# Altium footprint library projectPCB_v1.PcbLib: 16 footprints
Each footprint in its own frame and in the unit in brackets; x right, y up, seen from the top. Pads: shape width x height; smd on the part's side, far side on the other; paste and mask are expansions set on the pad; w line width, h text height; cw(c..) or ccw(c..) is an arc to the next point about the centre after c.
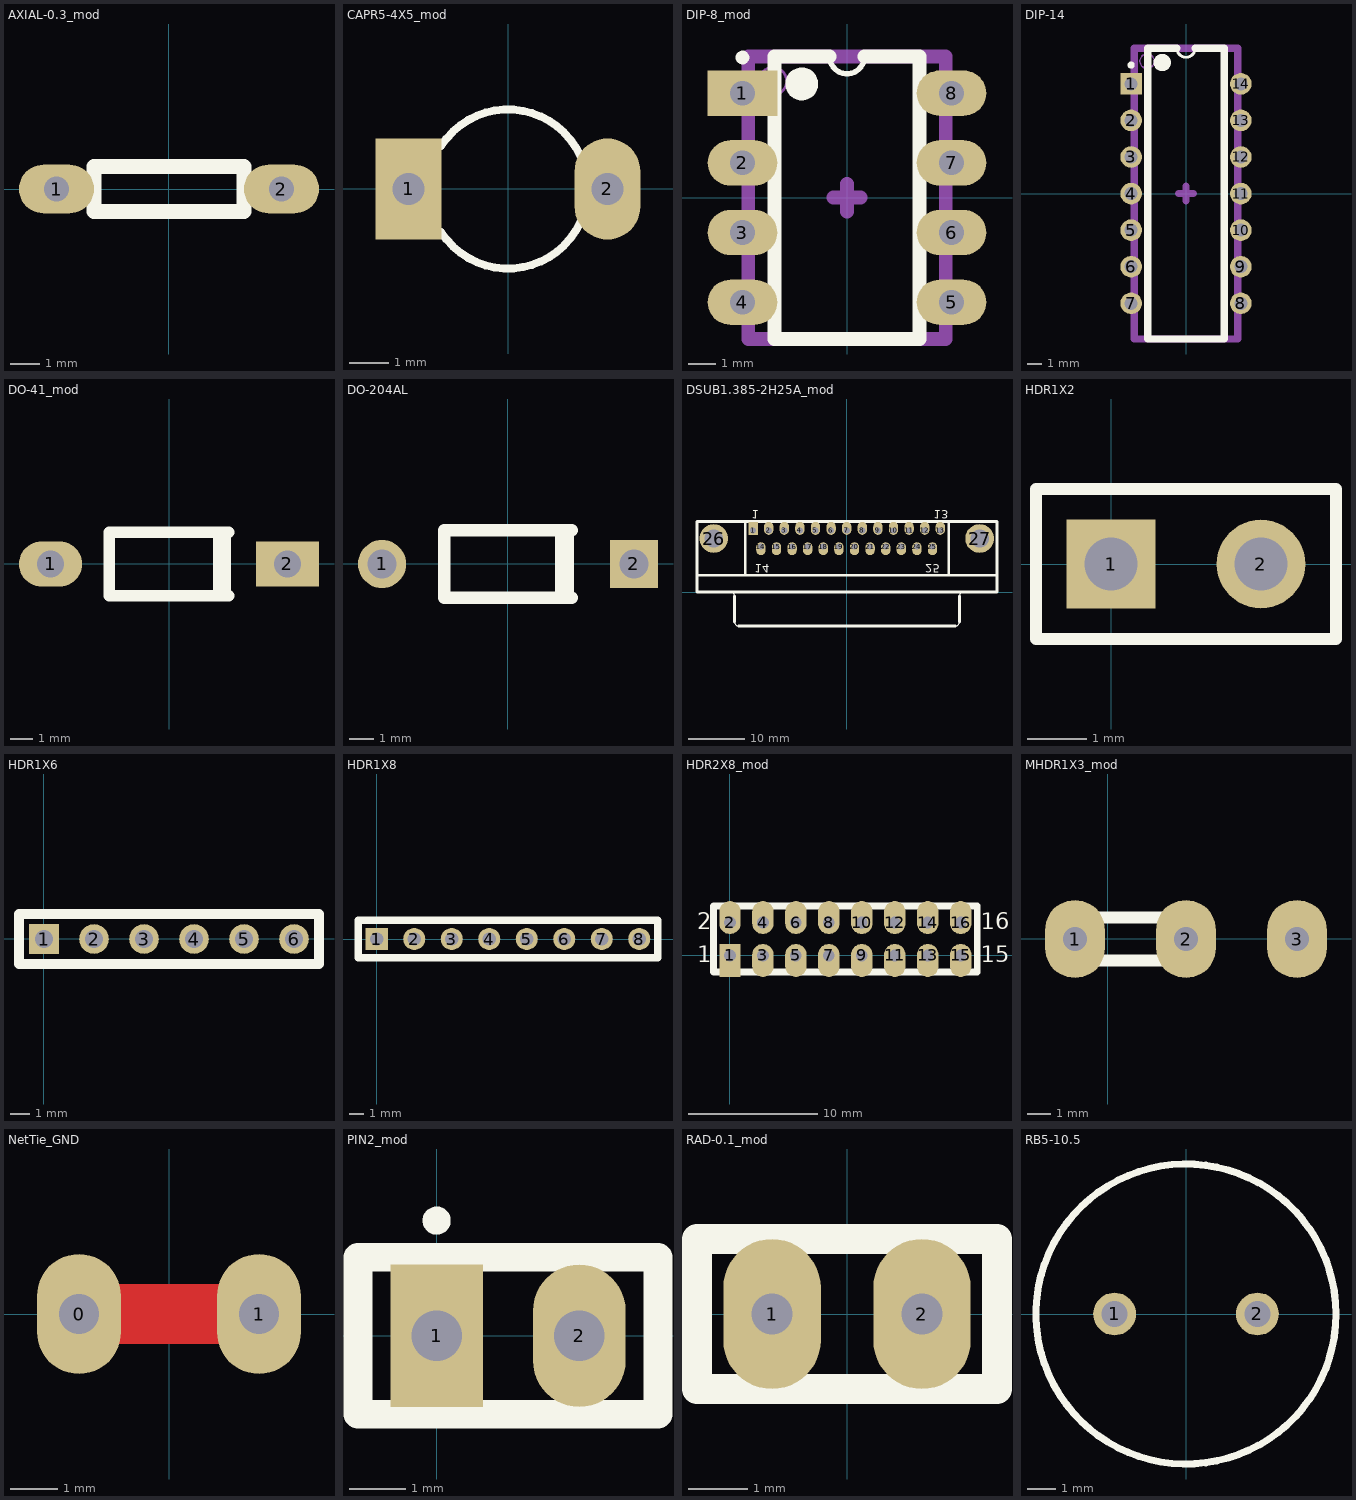
[diagram p0: the footprints below, top view; thin cyan lines are the x and y axes]

## AXIAL-0.3_mod [mil]
pads (2):
  oval 100x65 hole 33.46: 1(-150,0) 2(150,0)
Top Overlay:
  lines w20: -109,0 -100,0 ; 109,0 100,0 ; 100,0 100,30 -100,30 -100,-30 100,-30 100,0

## CAPR5-4X5_mod [mil]
pads (2):
  rect 65x100 hole 31.5: 1(-98.43,0)
  oval 65x100 hole 31.5: 2(98.42,0)
Top Overlay:
  lines w7.87: -66.4,-42.32 ccw(c0,0) 71.61,-32.74 ; -66.4,42.32 cw(c0,0) 71.61,32.74

## DIP-8_mod [mil]
pads (8):
  rect 100x65 hole 35.43: 1(-150,150)
  oval 100x65 hole 35.43: 2(-150,50) 3(-150,-50) 4(-150,-150) 5(150,-150) 6(150,-50) 7(150,50) 8(150,150)
Top Overlay:
  circle w23.62: c-64.96,163.39 r11.81
  circle w9.84: c-150,201.18 r4.92
  lines w7.87: -25,202.76 ccw(c0,202.76) 25,202.76
  lines w20: -25,202.76 -104.33,202.76 -104.33,-202.76 104.33,-202.76 104.33,202.76 25,202.76
Mechanical 13:
  circle w3.94: c-106.3,167.32 r19.68
  lines w20: -141.73,-202.76 141.73,-202.76 141.73,202.76 -141.73,202.76 -141.73,-202.76
Mechanical 15:
  lines w20: -19.68,0 19.69,0 ; 0,-19.68 0,19.69
3D body: height 200, standoff 0, extent -141.73,-202.76 141.73,202.76

## DIP-14 [mm]
pads (14):
  rect 1.5x1.5 hole 0.9: 1(-3.81,7.62)
  round 1.5 hole 0.9: 2(-3.81,5.08) 3(-3.81,2.54) 4(-3.81,0) 5(-3.81,-2.54) 6(-3.81,-5.08) 7(-3.81,-7.62) 8(3.81,-7.62) 9(3.81,-5.08) 10(3.81,-2.54) 11(3.81,0) 12(3.81,2.54) 13(3.81,5.08) 14(3.81,7.62)
Top Overlay:
  circle w0.25: c-3.81,8.92 r0.125
  circle w0.6: c-1.65,9.1 r0.3
  lines w0.2: -0.635,10.1 ccw(c0,10.1) 0.635,10.1
  lines w0.508: -0.635,10.1 -2.65,10.1 -2.65,-10.1 2.65,-10.1 2.65,10.1 0.635,10.1
Mechanical 13:
  circle w0.1: c-2.7,9.2 r0.5
  lines w0.508: -3.6,-10.1 -3.6,10.1 3.6,10.1 3.6,-10.1 -3.6,-10.1
Mechanical 15:
  lines w0.508: -0.5,0 0.5,0 ; 0,-0.5 0,0.5
3D body: height 5.08, standoff 0, extent -3.6,-10.1 3.6,10.1

## DO-41_mod [mm]
pads (2):
  oval 2.794x2 hole 1.2: 1(-5.23,0)
  rect 2.794x2 hole 1.2: 2(5.23,0)
Top Overlay:
  rectangle: 1.95,-1.4 2.75,1.4
  lines w0.508: 2.65,-1.4 -2.65,-1.4 -2.65,1.4 2.65,1.4

## DO-204AL [mm]
pads (2):
  round 2 hole 1.2: 1(-5.23,0)
  rect 2x2 hole 1.2: 2(5.23,0)
Top Overlay:
  rectangle: 1.95,-1.4 2.75,1.4
  lines w0.508: 2.65,-1.4 -2.65,-1.4 -2.65,1.4 2.65,1.4

## DSUB1.385-2H25A_mod [mm]
pads (27):
  rect 1.651x2.286 hole 1.09 copper offset 0,0.381: 1(-16.566,10.92)
  oval 1.651x2.286 hole 1.09 copper offset 0,0.381: 2(-13.805,10.92) 3(-11.044,10.92) 4(-8.283,10.92) 5(-5.522,10.92) 6(-2.761,10.92) 7(0,10.92) 8(2.761,10.92) 9(5.522,10.92) 10(8.283,10.92) 11(11.044,10.92) 12(13.805,10.92) 13(16.566,10.92)
  oval 1.651x2.286 hole 1.09 copper offset 0,-0.381: 14(-15.185,8.08) 15(-12.424,8.08) 16(-9.663,8.08) 17(-6.902,8.08) 18(-4.141,8.08) 19(-1.38,8.08) 20(1.381,8.08) 21(4.142,8.08) 22(6.903,8.08) 23(9.664,8.08) 24(12.425,8.08) 25(15.186,8.08)
  round 5.08 hole 3.26: 26(-23.526,9.5) 27(23.526,9.5)
Top Overlay:
  lines w0.2: -20.541,-0.005 cw(c-20.541,-0.7) -19.846,-0.7 ; -19.841,-5.305 ccw(c-19.146,-5.305) -19.146,-6 ; 19.254,-6 ccw(c19.254,-5.305) 19.949,-5.305 ; 19.954,-0.7 cw(c20.649,-0.7) 20.649,-0.005
  lines w0.508: -26.496,3 26.604,3 ; -19.846,-5.3 -19.846,-0.7 ; -19.146,-6 19.254,-6 ; -17.946,3 -17.946,12.5 ; 18.054,3 18.054,12.5 ; 19.954,-5.3 19.954,-0.7 ; -26.496,0 -26.496,12.5 26.604,12.5 26.604,0 -26.496,0
  text "25" at 13.936,4.975 h1.5
  text "14" at -16.31,4.975 h1.5
  text "13" at 15.441,14.475 h1.5
  text "1" at -16.816,14.475 h1.5

## HDR1X2 [mm]
pads (2):
  rect 1.5x1.5 hole 0.9: 1(0,0)
  round 1.5 hole 0.9: 2(2.54,0)
Top Overlay:
  lines w0.2: -1.27,-1.27 -1.27,1.27 3.81,1.27 3.81,-1.27 -1.27,-1.27

## HDR1X6 [mm]
pads (6):
  rect 1.5x1.5 hole 0.9: 1(0,0)
  round 1.5 hole 0.9: 2(2.54,0) 3(5.08,0) 4(7.62,0) 5(10.16,0) 6(12.7,0)
Top Overlay:
  lines w0.508: -1.27,-1.27 13.97,-1.27 13.97,1.27 -1.27,1.27 -1.27,-1.27

## HDR1X8 [mm]
pads (8):
  rect 1.5x1.5 hole 0.9: 1(0,0)
  round 1.5 hole 0.9: 2(2.54,0) 3(5.08,0) 4(7.62,0) 5(10.16,0) 6(12.7,0) 7(15.24,0) 8(17.78,0)
Top Overlay:
  lines w0.508: -1.27,-1.27 -1.27,1.27 19.05,1.27 19.05,-1.27 -1.27,-1.27

## HDR2X8_mod [mil]
pads (16):
  rect 65x100 hole 35.43 copper offset 0,-15: 1(0,0)
  oval 65x100 hole 35.43 copper offset 0,15: 2(0,100) 4(100,100) 6(200,100) 8(300,100) 10(400,100) 12(500,100) 14(600,100) 16(700,100)
  oval 65x100 hole 35.43 copper offset 0,-15: 3(100,0) 5(200,0) 7(300,0) 9(400,0) 11(500,0) 13(600,0) 15(700,0)
Top Overlay:
  lines w20: -50,-50 750,-50 750,150 -50,150 -50,-50
  text "16" at 760,80 h50
  text "15" at 760,-20 h50
  text "1" at -100,-20 h50
  text "2" at -100,80 h50

## MHDR1X3_mod [mil]
pads (3):
  oval 100x130 hole 40 square: 1(-55,0) 2(130,0) 3(315,0)
Top Overlay:
  lines w20: -35.43,-35.43 -35.43,35.43 135.43,35.43 135.43,-35.43 -35.43,-35.43

## NetTie_GND [mil] "Net Tie for GND, through hole"
pads (2):
  oval 70x100 hole 33.46 mask-100: 0(-75,0) 1(75,0)
Top Layer:
  rectangle: -50,-25 50,25

## PIN2_mod [mil]
pads (2):
  rect 65x100 hole 35.43: 1(0,0)
  oval 65x100 hole 35.43: 2(100,0)
Top Overlay:
  circle w9.84: c0,80.71 r4.92
  lines w20: -55.12,-55.12 155.12,-55.12 155.12,55.12 -55.12,55.12 -55.12,-55.12

## RAD-0.1_mod [mil]
pads (2):
  oval 65x100 hole 27.56: 1(-50,0) 2(50,0)
Top Overlay:
  lines w20: -100,-50 -100,50 100,50 100,-50 -100,-50

## RB5-10.5 [mm]
pads (2):
  round 1.5 hole 0.9: 1(-2.5,0) 2(2.5,0)
Top Overlay:
  circle w0.25: c0,0 r5.25
Mechanical 1:
  circle w0.02: c0,0 r5.25